# EAGLE library part STM32L052K*U (library MCU)
STM32L052x - Ultra-low-power 32-bit MCU ARM ® -based Cortex ® -M0+, 64 KB Flash, 8 KB SRAM, 2 KB EEPROM,USB, ADC, DAC Datasheet <http://www.st.com/content/ccc/resource/technical/document/datasheet/dc/d6/6d/24/86/2a/40/d3/DM00108217.pdf/files/DM00108217.pdf/jcr:content/translations/en.DM00108217.pdf>
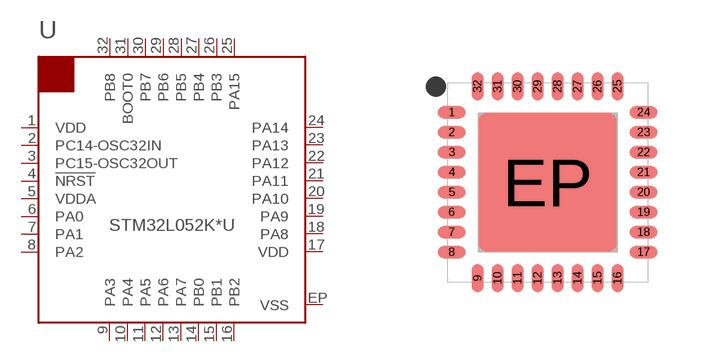
[diagram p16: symbol with the pads of UFQFPN32; footprint UFQFPN32]

Designator prefix U

## STM32L052K6U6 (MEM: 32KB; REFERENCE: https://goo.gl/qNcoCV), STM32L052K8U6 (MEM: 64KB; REFERENCE: https://goo.gl/qNcoCV)  [UFQFPN32]
1  VDD  pwr
2  PC14-OSC32IN
3  PC15-OSC32OUT
4  !NRST
5  VDDA  pwr
6  PA0
7  PA1
8  PA2
9  PA3
10  PA4
11  PA5
12  PA6
13  PA7
14  PB0
15  PB1
16  PB2
17  VDD  pwr
18  PA8
19  PA9
20  PA10
21  PA11
22  PA12
23  PA13
24  PA14
25  PA15
26  PB3
27  PB4
28  PB5
29  PB6
30  PB7
31  BOOT0  in
32  PB8
EP  VSS  pwr

## Footprint UFQFPN32 (pad centres in mm)
UFQFPN32 - 5 x 5 mm, 0.5 mm pitch, 32-pin ultra thin fine pitch quad flat no-lead Changelog: 10-24-16: Initial Design, CN
smd 0.7 x 0.3: 1 -2.4,1.75; 2 -2.4,1.25; 3 -2.4,0.75; 4 -2.4,0.25; 5 -2.4,-0.25; 6 -2.4,-0.75; 7 -2.4,-1.25; 8 -2.4,-1.75; 17 2.4,-1.75; 18 2.4,-1.25; 19 2.4,-0.75; 20 2.4,-0.25; 21 2.4,0.25; 22 2.4,0.75; 23 2.4,1.25; 24 2.4,1.75
smd 0.3 x 0.7: 9 -1.75,-2.4; 10 -1.25,-2.4; 11 -0.75,-2.4; 12 -0.25,-2.4; 13 0.25,-2.4; 14 0.75,-2.4; 15 1.25,-2.4; 16 1.75,-2.4; 25 1.75,2.4; 26 1.25,2.4; 27 0.75,2.4; 28 0.25,2.4; 29 -0.25,2.4; 30 -0.75,2.4; 31 -1.25,2.4; 32 -1.75,2.4
smd 3.45 x 3.45: EP 0,0